# Altium footprint library Capacitor - Aluminium.PcbLib: 3 footprints
Each footprint in its own frame and in the unit in brackets; x right, y up, seen from the top. Pads: shape width x height; smd on the part's side, far side on the other; paste and mask are expansions set on the pad; w line width, h text height; cw(c..) or ccw(c..) is an arc to the next point about the centre after c.
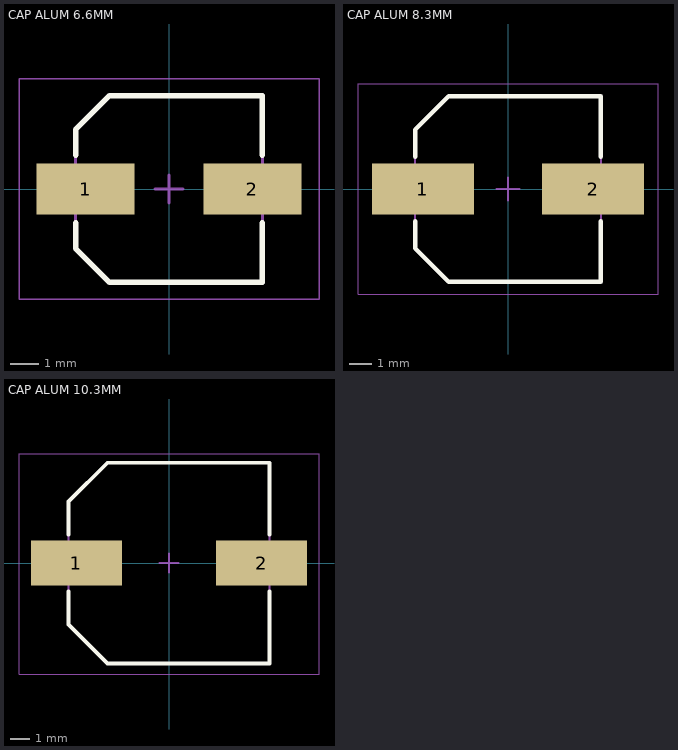
[diagram p0: the footprints below, top view; thin cyan lines are the x and y axes]

## CAP ALUM 6.6MM [mm] "Aluminum Electrolytic Capacitor, Body 6.60x6.60x7.70mm, IPC Low Density"
height 7.7
pads (2):
  rect 3.45x1.8 smd: 1(-2.95,0) 2(2.95,0)
Top Overlay:
  lines w0.2: -3.3,-1.2 -3.3,-2.1 -2.1,-3.3 3.3,-3.3 3.3,-1.2 ; -3.3,1.2 -3.3,2.1 -2.1,3.3 3.3,3.3 3.3,1.2
Mechanical 13:
  lines w0.1: -3.3,-2.1 -3.3,2.1 -2.1,3.3 3.3,3.3 3.3,-3.3 -2.1,-3.3 -3.3,-2.1
Mechanical 15:
  lines w0.05: -5.3,-3.9 5.3,-3.9 5.3,3.9 -5.3,3.9 -5.3,-3.9
  lines w0.1: -0.5,0 0.5,0 ; 0,-0.5 0,0.5
3D body "CAP ALUM 6_6mm.STEP": height 7.7, standoff 0, extent -3.5,-3.3 3.5,3.3

## CAP ALUM 8.3MM [mm] "Aluminum Electrolytic Capacitor, Body 8.30x8.30x10.50mm, IPC Low Density"
height 10.5
pads (2):
  rect 4.55x2.3 smd: 1(-3.8,0) 2(3.8,0)
Top Overlay:
  lines w0.2: -4.15,-1.45 -4.15,-2.65 -2.65,-4.15 4.15,-4.15 4.15,-1.45 ; -4.15,1.45 -4.15,2.65 -2.65,4.15 4.15,4.15 4.15,1.45
Mechanical 13:
  lines w0.1: -4.15,-2.65 -4.15,2.65 -2.65,4.15 4.15,4.15 4.15,-4.15 -2.65,-4.15 -4.15,-2.65
Mechanical 15:
  lines w0.05: -6.7,-4.7 6.7,-4.7 6.7,4.7 -6.7,4.7 -6.7,-4.7
  lines w0.1: -0.5,0 0.5,0 ; 0,-0.5 0,0.5
3D body "CAP ALUM 8_3mm.STEP": height 10.5, standoff 0, extent -4.95,-4.15 4.95,4.15

## CAP ALUM 10.3MM [mm] "Aluminum Electrolytic Capacitor, Body 10.30x10.30x10.50mm, IPC Low Density"
height 10.5
pads (2):
  rect 4.65x2.3 smd: 1(-4.75,0) 2(4.75,0)
Top Overlay:
  lines w0.2: -5.15,-1.45 -5.15,-3.15 -3.15,-5.15 5.15,-5.15 5.15,-1.45 ; -5.15,1.45 -5.15,3.15 -3.15,5.15 5.15,5.15 5.15,1.45
Mechanical 13:
  lines w0.1: -5.15,-3.15 -5.15,3.15 -3.15,5.15 5.15,5.15 5.15,-5.15 -3.15,-5.15 -5.15,-3.15
Mechanical 15:
  lines w0.05: -7.7,-5.7 7.7,-5.7 7.7,5.6 -7.7,5.6 -7.7,-5.7
  lines w0.1: -0.5,0 0.5,0 ; 0,-0.5 0,0.5
3D body "CAP ALUM 10_3mm.STEP": height 10.5, standoff 0, extent -5.8,-5.15 5.8,5.15